# EAGLE library part CTS753DRT20 (library resistor-net)
Network Resistor CTS 753 Series Leadless Surface Mount Source: http://www.ctscorp.com/components/Datasheets/753.pdf Distributor: Digi Key
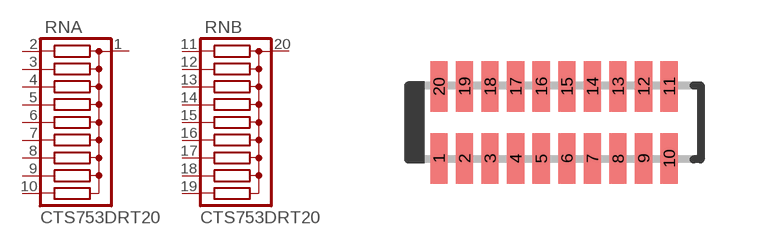
[diagram p14: symbol with the pads of CTS753DRT20; footprint CTS753DRT20]

Designator prefix RN; gates A=RN1X9 B=RN1X9

## CTS753DRT20 (OC_FARNELL: unknown; OC_NEWARK: unknown)  [CTS753DRT20]
1  A:C  pas
2  A:1  pas
3  A:2  pas
4  A:3  pas
5  A:4  pas
6  A:5  pas
7  A:6  pas
8  A:7  pas
9  A:8  pas
10  A:9  pas
11  B:1  pas
12  B:2  pas
13  B:3  pas
14  B:4  pas
15  B:5  pas
16  B:6  pas
17  B:7  pas
18  B:8  pas
19  B:9  pas
20  B:C  pas

## Footprint CTS753DRT20 (pad centres in mm)
Network Resistor Leadless Surface Mount Series 753 Source: http://www.ctscorp.com/components/Datasheets/753.pdf
smd 0.43 x 1.27: 1 -2.88,-0.9; 2 -2.24,-0.9; 3 -1.6,-0.9; 4 -0.96,-0.9; 5 -0.32,-0.9; 6 0.32,-0.9; 7 0.96,-0.9; 8 1.6,-0.9; 9 2.24,-0.9; 10 2.88,-0.9; 11 2.88,0.9; 12 2.24,0.9; 13 1.6,0.9; 14 0.96,0.9; 15 0.32,0.9; 16 -0.32,0.9; 17 -0.96,0.9; 18 -1.6,0.9; 19 -2.24,0.9; 20 -2.88,0.9